# EAGLE library part SRAM_16 (library JLB6_Processor)
SRAM ou NVSRAM Cypress CY14B108N 16bits
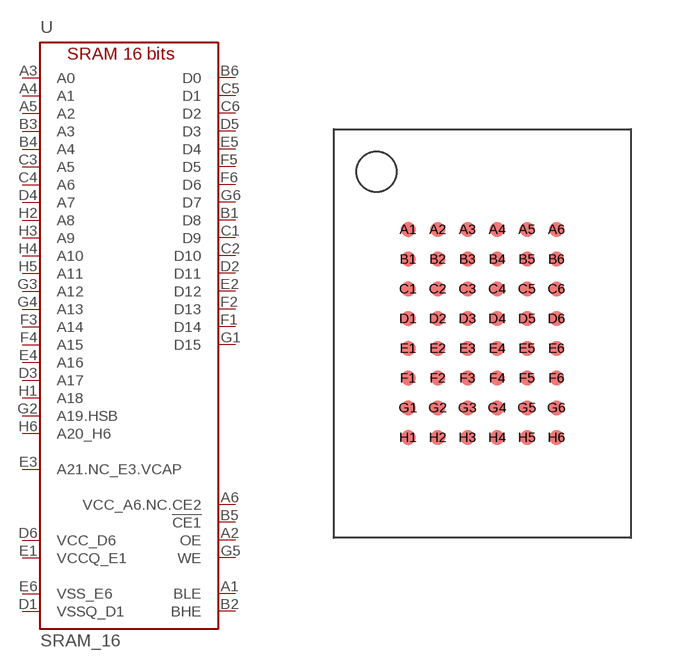
[diagram p22: symbol with the pads of BGA48; footprint BGA48]

Designator prefix U

## SRAM_16  [BGA48]
A1  BLE
A2  OE
A3  A0
A4  A1
A5  A2
A6  VCC_A6.NC.CE2
B1  D8
B2  BHE
B3  A3
B4  A4
B5  !CE1
B6  D0
C1  D9
C2  D10
C3  A5
C4  A6
C5  D1
C6  D2
D1  VSSQ_D1
D2  D11
D3  A17
D4  A7
D5  D3
D6  VCC_D6
E1  VCCQ_E1
E2  D12
E3  A21.NC_E3.VCAP
E4  A16
E5  D4
E6  VSS_E6
F1  D14
F2  D13
F3  A14
F4  A15
F5  D5
F6  D6
G1  D15
G2  A19.HSB
G3  A12
G4  A13
G5  WE
G6  D7
H1  A18
H2  A8
H3  A9
H4  A10
H5  A11
H6  A20_H6

## Footprint BGA48 (pad centres in mm)
smd 0.4 x 0.4: A1 -2,2.8; A2 -1.2,2.8; A3 -0.4,2.8; A4 0.4,2.8; A5 1.2,2.8; A6 2,2.8; B1 -2,2; B2 -1.2,2; B3 -0.4,2; B4 0.4,2; B5 1.2,2; B6 2,2; C1 -2,1.2; C2 -1.2,1.2; C3 -0.4,1.2; C4 0.4,1.2; C5 1.2,1.2; C6 2,1.2; D1 -2,0.4; D2 -1.2,0.4; D3 -0.4,0.4; D4 0.4,0.4; D5 1.2,0.4; D6 2,0.4; E1 -2,-0.4; E2 -1.2,-0.4; E3 -0.4,-0.4; E4 0.4,-0.4; E5 1.2,-0.4; E6 2,-0.4; F1 -2,-1.2; F2 -1.2,-1.2; F3 -0.4,-1.2; F4 0.4,-1.2; F5 1.2,-1.2; F6 2,-1.2; G1 -2,-2; G2 -1.2,-2; G3 -0.4,-2; G4 0.4,-2; G5 1.2,-2; G6 2,-2; H1 -2,-2.8; H2 -1.2,-2.8; H3 -0.4,-2.8; H4 0.4,-2.8; H5 1.2,-2.8; H6 2,-2.8